# Altium schematic symbol library Display.SchLib: 10 symbols
Pins are listed as number, name and electrical type; pins without a type are passive.

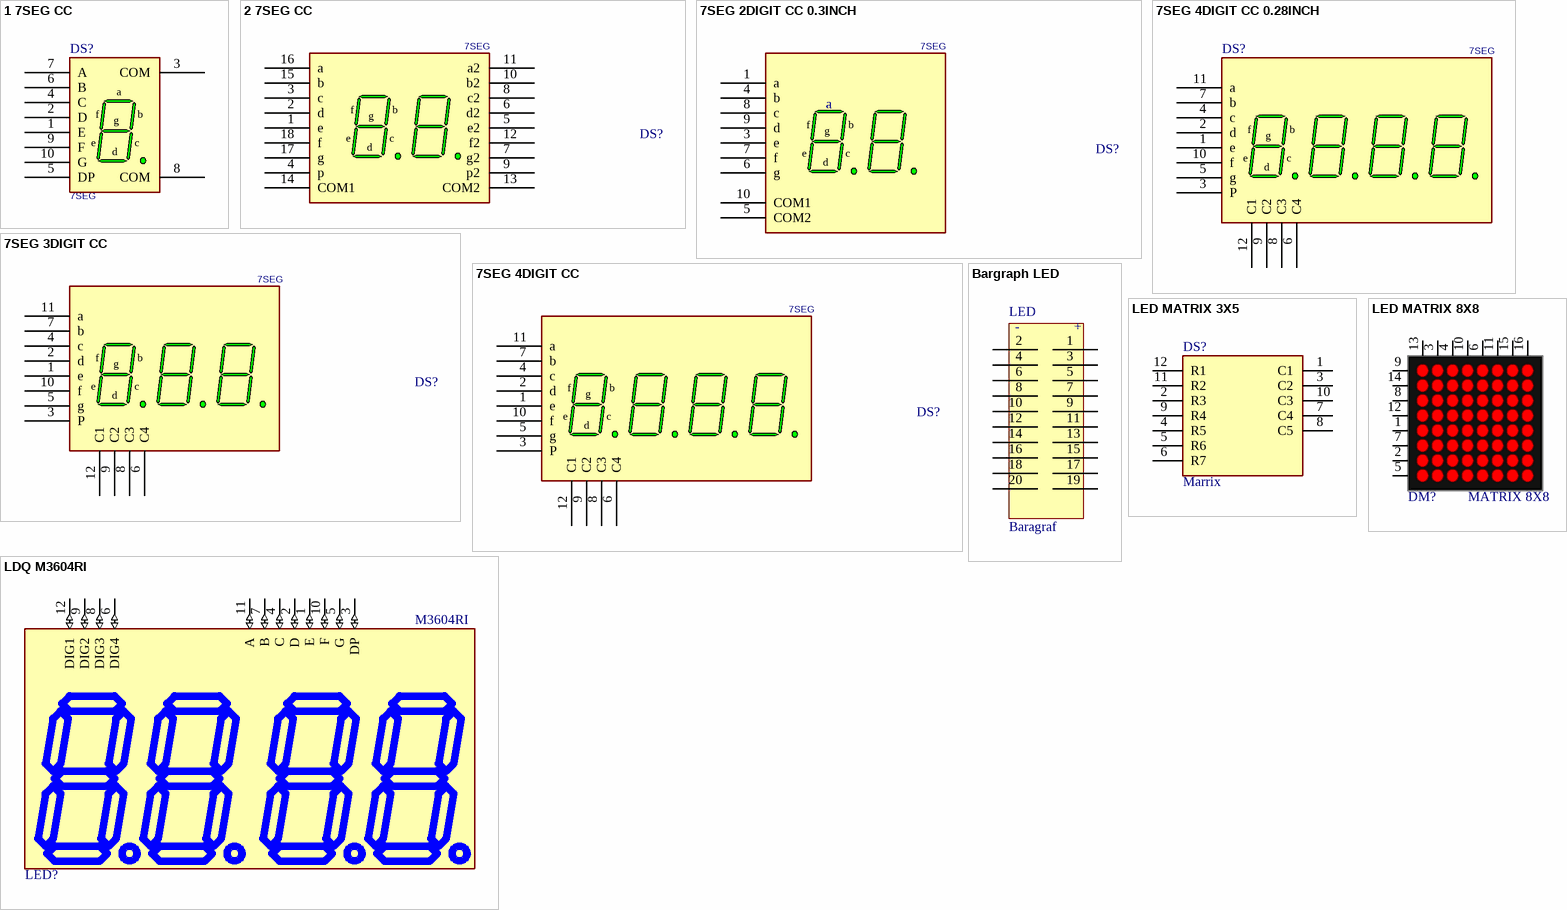
[diagram p0: symbols 1 7SEG CC to LED MATRIX 8X8]

## 1 7SEG CC
designator DS?  value 7SEG
7SEGMENT, 1DIGIT; DatasheetVersion: 2022
footprint 1 7SEG (1) (7SEG single 10pin Pitch: 2.54mm  19X12.5mm)
footprint 1 7SEG (2) (7SEG single 10pin Pitch: 2.54mm  3911 0.39" 10X13mm)
footprint 1 7SEG (3)
footprint 1 7SEG (4)
pins: 1 E, 2 D, 3 COM, 4 C, 5 DP, 6 B, 7 A, 8 COM, 9 F, 10 G
2 alternate drawings of the same symbol

## 2 7SEG CC
designator DS?  value 7SEG
7SEGMENT, 2DIGIT; DatasheetVersion: 2022
footprint 2 7SEG (1) (7SEG 2DIGIT 16pin Pitch: 2.54mm    5621 0.56", 19X25mm)
pins: 1 e, 2 d, 3 c, 4 p, 5 e2, 6 d2, 7 g2, 8 c2, 9 p2, 10 b2, 11 a2, 12 f2, 13 COM2, 14 COM1, 15 b, 16 a, 17 g, 18 f

## 7SEG 2DIGIT CC 0.3INCH
designator DS?  value 7SEG
7SEGMENT, 2DIGIT; DatasheetVersion: 2022
footprint 2 7SEG (2) (7SEG 2DIGIT 10pin Pitch: 2.54mm  0.3", 15.5X15mm)
pins: 1 a, 3 e, 4 b, 5 COM2, 6 g, 7 f, 8 c, 9 d, 10 COM1

## 7SEG 3DIGIT CC
designator DS?  value 7SEG
7SEGMENT, 3DIGIT; DatasheetVersion: 2022
footprint 3 7SEG (1) (7SEG 3DIGIT 12pin Pitch: 2.54mm  5641 0.56", 19X37.5mm)
pins: 1 e, 2 d, 3 P, 4 c, 5 g, 6 C4, 7 b, 8 C3, 9 C2, 10 f, 11 a, 12 C1

## 7SEG 4DIGIT CC
designator DS?  value 7SEG
7SEGMENT, 4DIGIT, common cathode 5641; DatasheetVersion: 2022
footprint 4 7SEG (1) (7SEG 4DIGIT 12pin Pitch: 2.54mm    5641 0.56", 19X50.3mm)
footprint 4 7SEG (3) (7seg-CA; 12 Leads)
pins: 1 e, 2 d, 3 P, 4 c, 5 g, 6 C4, 7 b, 8 C3, 9 C2, 10 f, 11 a, 12 C1

## 7SEG 4DIGIT CC 0.28INCH
designator DS?  value 7SEG
7SEGMENT, 4DIGIT, 0.28"; DatasheetVersion: 2022
footprint 4 7SEG (2) (7SEG 4DIGIT ,0.28", 12pin Pitch: 2.54mm, 10.2X32mm)
pins: 1 e, 2 d, 3 P, 4 c, 5 g, 6 C4, 7 b, 8 C3, 9 C2, 10 f, 11 a, 12 C1

## Bargraph LED
designator LED  value Baragraf
bargraph LED; DatasheetVersion: 2022
footprint BARGRAPH green
pins: 1 A, 2 K, 3 A, 4 K, 5 A, 6 K, 7 A, 8 K, 9 A, 10 K, 11 A, 12 K, 13 A, 14 K, 15 A, 16 K, 17 A, 18 K, 19 A, 20 K
text: -; +

## LDQ M3604RI
designator LED?  value M3604RI
Display, Seven Segment, 9.2MM, Red; DatasheetVersion: 2022
footprint LDQ-M3604RI
pins: 1 E (io), 2 D (io), 3 DP (io), 4 C (io), 5 G (io), 6 DIG4 (io), 7 B (io), 8 DIG3 (io), 9 DIG2 (io), 10 F (io), 11 A (io), 12 DIG1 (io)

## LED MATRIX 3X5
designator DS?  value Marrix
Dot Matrix Display Module 5 x 7 Common Cathode Row, Common Anode Column Red 2V 0.50in L x 0.70in W x 0.25in H (12.66mm x 17.74mm x 6.30mm); DatasheetVersion: 2022
footprint MATRIX 5X7 (LED Dot Matrix 5x7 12.7mmx17.8mm)
pins: 1 C1, 2 R3, 3 C2, 4 R5, 5 R6, 6 R7, 7 C4, 8 C5, 9 R4, 10 C3, 11 R2, 12 R1

## LED MATRIX 8X8
designator DM?  value MATRIX 8X8
DatasheetVersion: 2022
footprint MATRIX 8X8 (3) (LED Dot Matrix 8x8 20mmx20mm)
footprint MATRIX 8X8 (2) (LED Dot Matrix 8x8 38mmx38mm)
footprint MATRIX 8X8 (1) (LED Dot Matrix 8x8 32mmx32mm)
pins: 1 R5, 2 R7, 3 C2, 4 C3, 5 R8, 6 C5, 7 R6, 8 R3, 9 R1, 10 C4, 11 C6, 12 R4, 13 C1, 14 R2, 15 C7, 16 C8